# Altium integrated library switch-misc.IntLib: 29 symbols
Pins are listed as number, name and electrical type; pins without a type are passive.

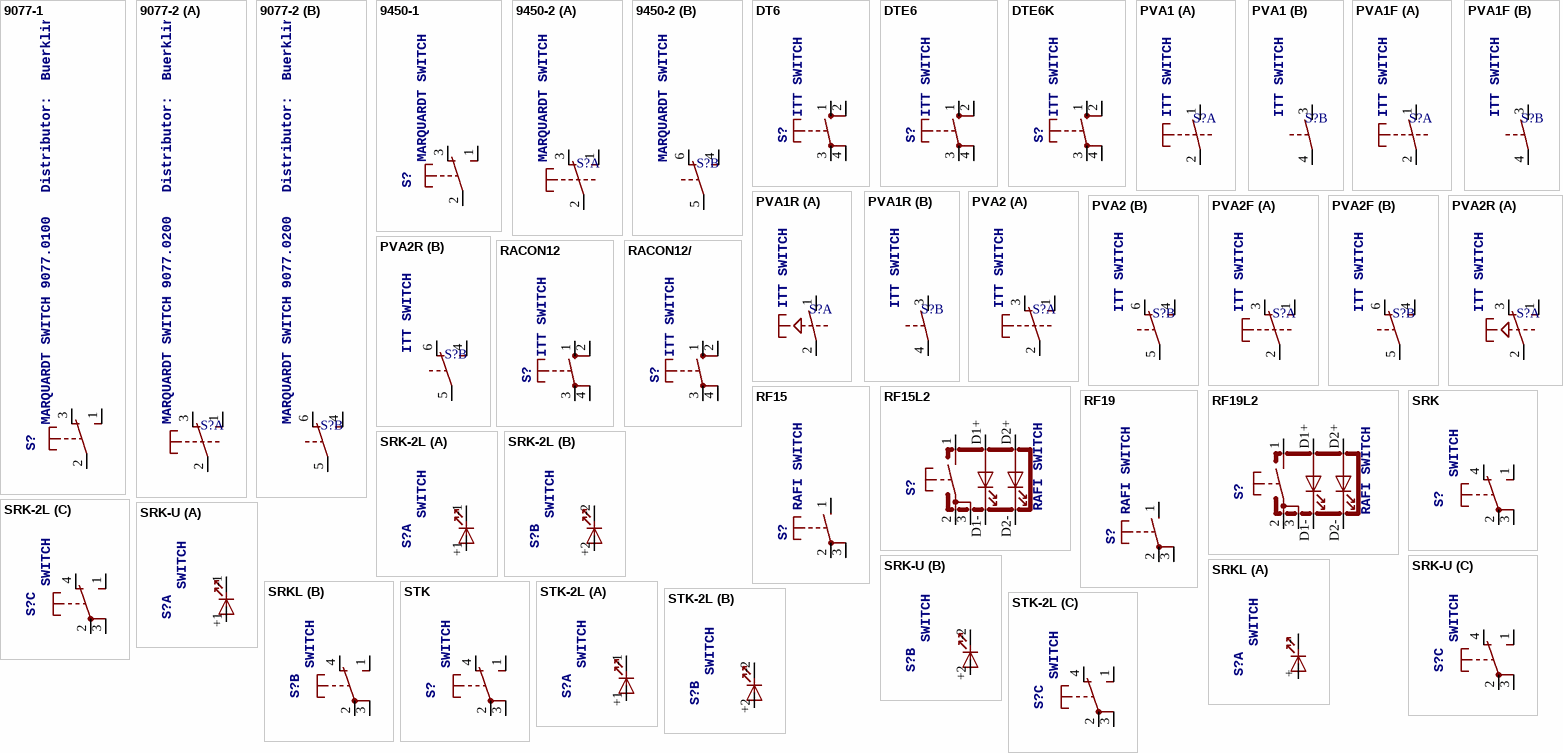
[diagram p0: symbols 9077-1 to STK-2L]

## 9077-1
designator S?, comment MARQUARDT SWITCH 9077.0100   Distributor:  Buerklin
footprint 9077-1
pins: 1 S, 2 P, 3 O

## 9077-2
designator S?, comment MARQUARDT SWITCH 9077.0200   Distributor:  Buerklin
footprint 9077-2
part A pins: 1 S, 2 P, 3 O
part B pins: 4 S, 5 P, 6 O

## 9450-1
designator S?, comment MARQUARDT SWITCH
footprint 9450-1
pins: 1 S, 2 P, 3 O

## 9450-2
designator S?, comment MARQUARDT SWITCH
footprint 9450-2
part A pins: 1 S, 2 P, 3 O
part B pins: 4 S, 5 P, 6 O

## DT6
designator S?, comment ITT SWITCH
footprint DT6
pins: 1 S, 2 S@1, 3 P, 4 P@1

## DTE6
designator S?, comment ITT SWITCH
footprint DTE6
pins: 1 S, 2 S@1, 3 P, 4 P@1

## DTE6K
designator S?, comment ITT SWITCH
footprint DTE6K
pins: 1 S, 2 S@1, 3 P, 4 P@1

## PVA1
designator S?, comment ITT SWITCH
footprint PVA1F
part A pins: 1 S, 2 P
part B pins: 3 S, 4 P

## PVA1F
designator S?, comment ITT SWITCH
footprint PVA1F
part A pins: 1 S, 2 P
part B pins: 3 S, 4 P

## PVA1R
designator S?, comment ITT SWITCH
footprint PVA1R
part A pins: 1 S, 2 P
part B pins: 3 S, 4 P

## PVA2
designator S?, comment ITT SWITCH
footprint PVA2F
part A pins: 1 S, 2 P, 3 O
part B pins: 4 S, 5 P, 6 O

## PVA2F
designator S?, comment ITT SWITCH
footprint PVA2F
part A pins: 1 S, 2 P, 3 O
part B pins: 4 S, 5 P, 6 O

## PVA2R
designator S?, comment ITT SWITCH
footprint PVA2R
part A pins: 1 S, 2 P, 3 O
part B pins: 4 S, 5 P, 6 O

## RACON12
designator S?, comment ITT SWITCH
footprint RACON12
pins: 1 S, 2 S@1, 3 P, 4 P@1

## RACON12/
designator S?, comment ITT SWITCH
footprint RACON12/
pins: 1 S, 2 S@1, 3 P, 4 P@1

## RF15
designator S?, comment RAFI SWITCH
footprint RF15
pins: 1 S, 2 P, 3 P@1

## RF15L2
designator S?, comment RAFI SWITCH
footprint RF15L2
pins: 1 S, 2 P, 3 P@1, D1+ A1, D1- C1, D2+ A2, D2- C2

## RF19
designator S?, comment RAFI SWITCH
footprint RF19
pins: 1 S, 2 P, 3 P@1

## RF19L2
designator S?, comment RAFI SWITCH
footprint RF19L2
pins: 1 S, 2 P, 3 P@1, D1+ A1, D1- C1, D2+ A2, D2- C2

## SRK
designator S?, comment SWITCH
footprint SRK
pins: 1 S, 2 P, 3 P@1, 4 O

## SRK-2L
designator S?, comment SWITCH
footprint SRK2L
part A pins: +1 A, -1 C
part B pins: +2 A, -2 C
part C pins: 1 S, 2 P, 3 P@1, 4 O

## SRK-U
designator S?, comment SWITCH
footprint SRK-U
part A pins: +1 A, -1 C
part B pins: +2 A, -2 C
part C pins: 1 S, 2 P, 3 P@1, 4 O

## SRKL
designator S?, comment SWITCH
footprint SRKL
part A pins: + A, - C
part B pins: 1 S, 2 P, 3 P@1, 4 O

## STK
designator S?, comment SWITCH
footprint STK
pins: 1 S, 2 P, 3 P@1, 4 O

## STK-2L
designator S?, comment SWITCH
footprint STK2L
part A pins: +1 A, -1 C
part B pins: +2 A, -2 C
part C pins: 1 S, 2 P, 3 P@1, 4 O

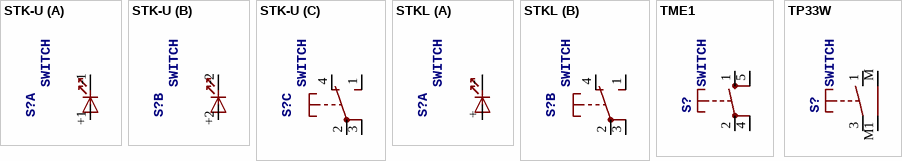
[diagram p1: symbols STK-U to TP33W]

## STK-U
designator S?, comment SWITCH
footprint STK-U
part A pins: +1 A, -1 C
part B pins: +2 A, -2 C
part C pins: 1 S, 2 P, 3 P@1, 4 O

## STKL
designator S?, comment SWITCH
footprint STKL
part A pins: + A, - C
part B pins: 1 S, 2 P, 3 P@1, 4 O

## TME1
designator S?, comment SWITCH
footprint TME1
pins: 1 S, 2 P, 4 P@1, 5 S@1

## TP33W
designator S?, comment SWITCH
footprint TP33W
pins: 1 S, 3 P, M, M1 M@1